# Altium footprint library CA_0805.PcbLib: 1 footprints
Each footprint in its own frame and in the unit in brackets; x right, y up, seen from the top. Pads: shape width x height; smd on the part's side, far side on the other; paste and mask are expansions set on the pad; w line width, h text height; cw(c..) or ccw(c..) is an arc to the next point about the centre after c.
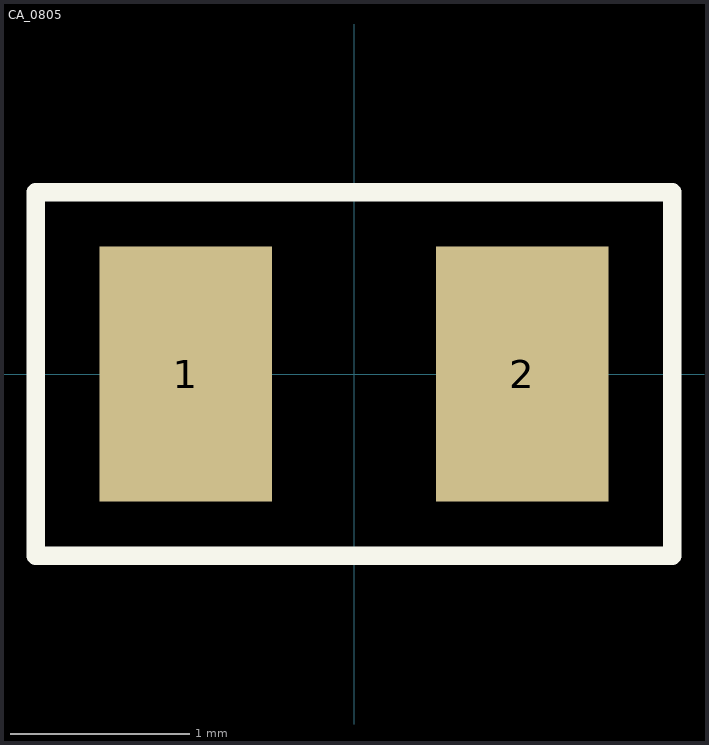
[diagram p0: the footprint, top view; thin cyan lines are the x and y axes]

## CA_0805 [mil] "CA_0805"
pads (2):
  rect 38x56 smd: 1(-37,0) 2(37,0)
Top Overlay:
  lines w4: -70,-40 -70,40 70,40 70,-40 -70,-40
3D body: height 31.39, standoff 0.6, extent -39.37,-25.59 39.37,23.62